# Altium footprint library Pcb_Components.PcbLib: 31 footprints (part 1 of 2)
Each footprint in its own frame and in the unit in brackets; x right, y up, seen from the top. Pads: shape width x height; smd on the part's side, far side on the other; paste and mask are expansions set on the pad; w line width, h text height; cw(c..) or ccw(c..) is an arc to the next point about the centre after c.
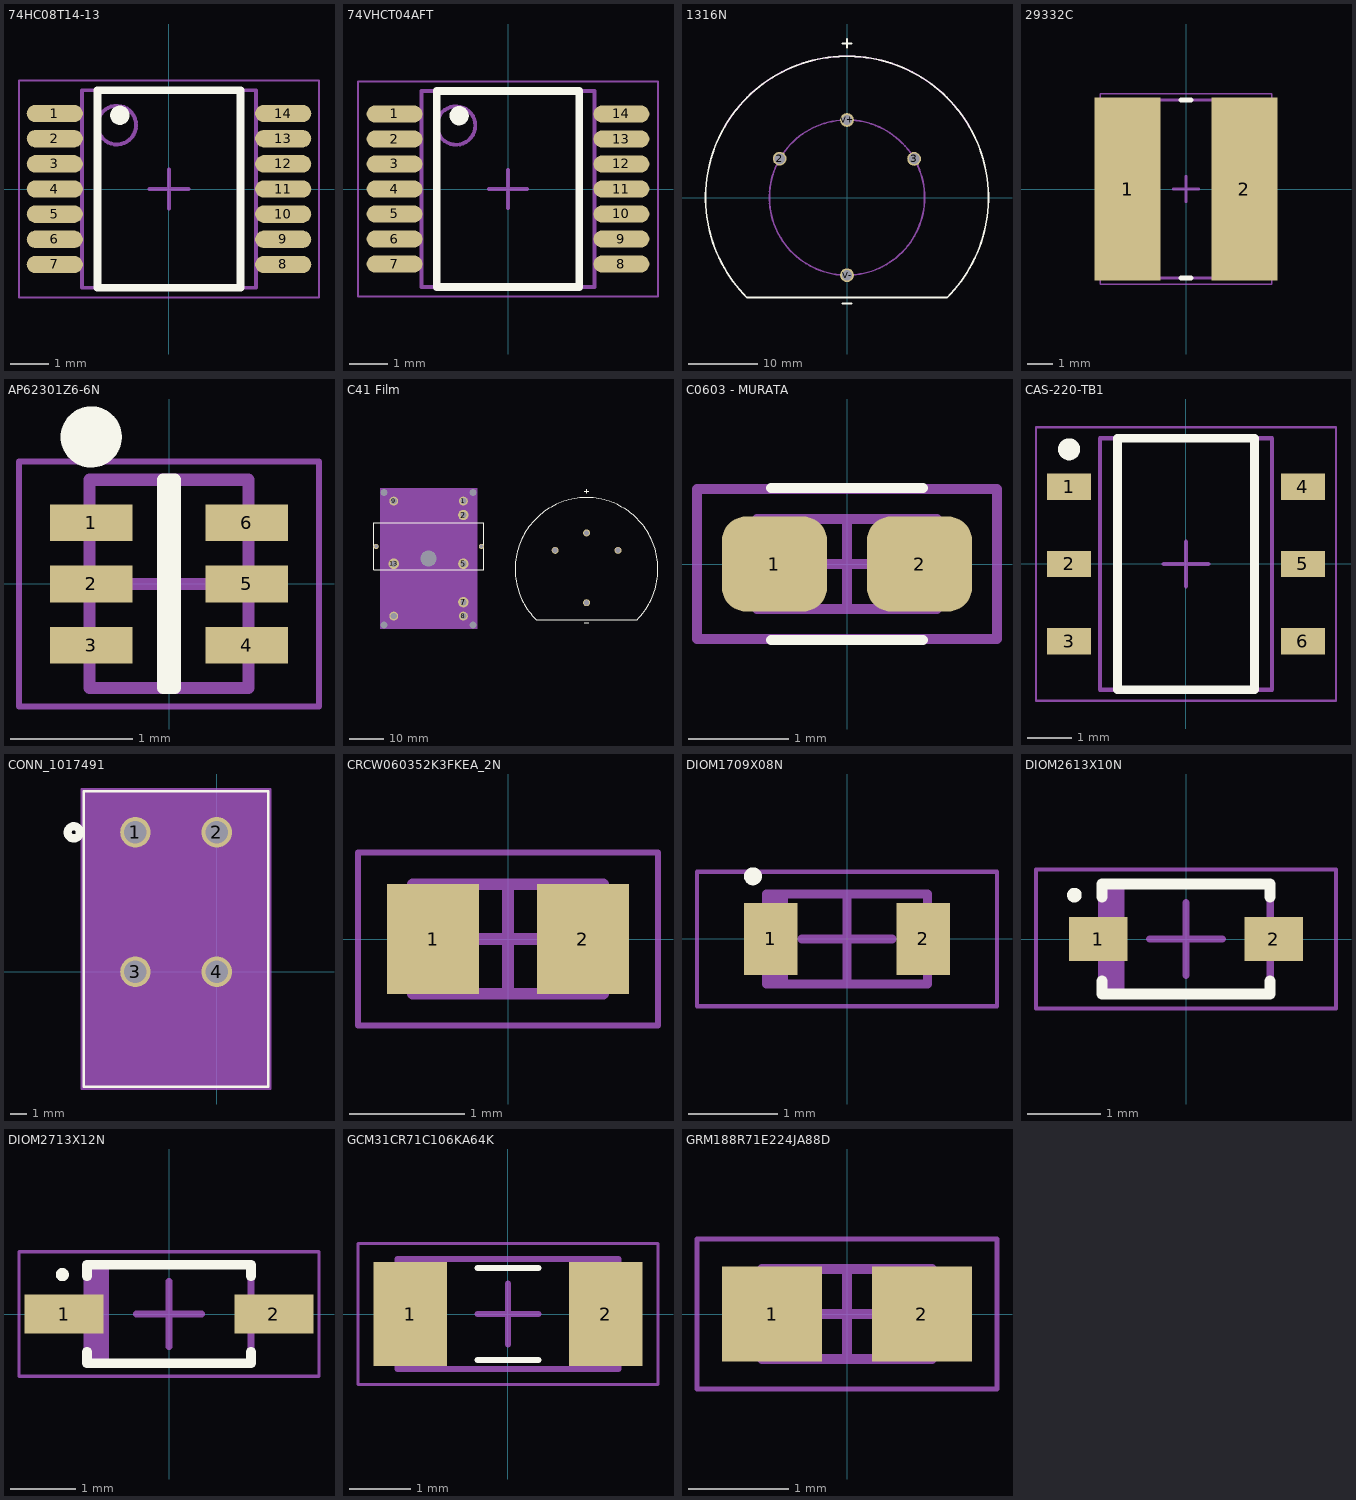
[diagram p0: the footprints below, top view; thin cyan lines are the x and y axes]

## 74HC08T14-13 [mm] "TSOP, 14-Leads, Body 5,00x4,40mm, Pitch 0,65mm, IPC Medium Density"
height 1.2
pads (14):
  oval 1.45x0.45 smd: 1(-2.95,1.95) 2(-2.95,1.3) 3(-2.95,0.65) 4(-2.95,0) 5(-2.95,-0.65) 6(-2.95,-1.3) 7(-2.95,-1.95) 8(2.95,-1.95) 9(2.95,-1.3) 10(2.95,-0.65) 11(2.95,0) 12(2.95,0.65) 13(2.95,1.3) 14(2.95,1.95)
Top Overlay:
  circle w0.25: c-1.27,1.905 r0.125
  lines w0.2: -1.85,-2.55 1.85,-2.55 1.85,2.55 -1.85,2.55 -1.85,-2.55
Mechanical 13:
  circle w0.1: c-1.35,1.65 r0.5
  lines w0.1: -2.25,-2.55 2.25,-2.55 2.25,2.55 -2.25,2.55 -2.25,-2.55
Mechanical 15:
  lines w0.05: -3.875,-2.8 3.875,-2.8 3.875,2.8 -3.875,2.8 -3.875,-2.8
  lines w0.1: -0.5,0 0.5,0 ; 0,-0.5 0,0.5
3D body "74HC08T14-13.step": height 1.2, standoff 0, extent -3.2,-2.55 3.2,2.55

## 74VHCT04AFT [mm] "TSOP, 14-Leads, Body 5,00x4,40mm, Pitch 0,65mm, IPC Medium Density"
height 1.2
pads (14):
  oval 1.45x0.45 smd: 1(-2.95,1.95) 2(-2.95,1.3) 3(-2.95,0.65) 4(-2.95,0) 5(-2.95,-0.65) 6(-2.95,-1.3) 7(-2.95,-1.95) 8(2.95,-1.95) 9(2.95,-1.3) 10(2.95,-0.65) 11(2.95,0) 12(2.95,0.65) 13(2.95,1.3) 14(2.95,1.95)
Top Overlay:
  circle w0.25: c-1.27,1.905 r0.125
  lines w0.2: -1.85,-2.55 1.85,-2.55 1.85,2.55 -1.85,2.55 -1.85,-2.55
Mechanical 13:
  circle w0.1: c-1.35,1.65 r0.5
  lines w0.1: -2.25,-2.55 2.25,-2.55 2.25,2.55 -2.25,2.55 -2.25,-2.55
Mechanical 15:
  lines w0.05: -3.9,-2.8 3.9,-2.8 3.9,2.8 -3.9,2.8 -3.9,-2.8
  lines w0.1: -0.5,0 0.5,0 ; 0,-0.5 0,0.5
3D body "74VHCT04AFT.step": height 1.2, standoff 0, extent -3.2,-2.55 3.2,2.55

## 1316N [mm]
pads (4):
  round 2 hole 1.5: 2(-9.754,5.639) 3(9.728,5.613) V+(0,11.25) V-(0,-11.25)
Top Overlay:
  lines w0.254: -14.496,-14.496 cw(c0,0) 14.496,-14.496 ; -14.478,-14.478 14.478,-14.478 ; -0.635,-15.367 0.635,-15.367 ; -0.635,22.352 0.635,22.352 ; 0,21.717 0,22.987
Mechanical 1:
  circle w0.254: c0,0 r11.25
Mechanical 13:
  lines w0.254: -17.754,10.25 cw(c0,0) 17.754,10.25

## 29332C [mm] "Precision Wire Wound Inductor, 2-Leads, Body 5,00x7,00mm, IPC Medium Density, 3.3uH"
height 4
pads (2):
  rect 2.6x7.2 smd: 1(-2.3,0) 2(2.3,0)
Top Overlay:
  lines w0.2: -0.2,-3.5 0.2,-3.5 ; -0.2,3.5 0.2,3.5
Mechanical 13:
  lines w0.1: -2.5,-3.5 2.5,-3.5 2.5,3.5 -2.5,3.5 -2.5,-3.5
Mechanical 15:
  lines w0.05: -3.375,-3.75 3.375,-3.75 3.375,3.75 -3.375,3.75 -3.375,-3.75
  lines w0.1: -0.5,0 0.5,0 ; 0,-0.5 0,0.5

## AP62301Z6-6N [mm] "SOTFL, 6-Leads, Body 1,60x1,60mm, Pitch 0,50mm, IPC Medium Density"
height 0.6
pads (6):
  rect 0.67x0.3 smd: 1(-0.635,0.5) 2(-0.635,0) 3(-0.635,-0.5) 4(0.635,-0.5) 5(0.635,0) 6(0.635,0.5)
Top Overlay:
  circle w0.25: c-0.635,1.2 r0.125
  lines w0.1: -0.05,-0.85 0.05,-0.85 0.05,0.85 -0.05,0.85 -0.05,-0.85
Mechanical 13:
  lines w0.1: -0.65,-0.85 -0.65,0.85 0.65,0.85 0.65,-0.85 -0.65,-0.85
Mechanical 15:
  lines w0.05: -1.225,-1 -1.225,1 1.225,1 1.225,-1 -1.225,-1
  lines w0.1: -0.5,0 0.5,0 ; 0,-0.5 0,0.5
3D body "AP62301Z6-6N.step": height 0.6, standoff 0, extent -0.8,-0.848 0.8,0.848

## C41 Film [mil]
pads (19):
  round 59.06 hole 39.37: 1(3000.6,2108) 2(4190,2108)
  round 100 hole 70.86: 1(3986.4,2620.66) 8(3986.4,1321.45) 9(3199,2620.66) 16(3199,1321.45)
  round 118 hole 70.86: 2(3986.4,2463.18) 5(3986.4,1912) 7(3986.4,1478.93) 13(3199,1912)
  round 78.74 hole 59.06: 2(5022.72,2064.15) 3(5733.28,2064.15) V+(5378,2261) V-(5378,1472.02)
  round 5 hole 78.74 unplated: 9(3090.73,1223.02) 9(3090.73,2719.09) 9(4094.67,1223.02) 9(4094.67,2719.09)
  round 5 hole 181.1 unplated: 9(3592.7,1971.06)
Top Overlay:
  lines w10: 4807.3,1281.33 cw(c5378,1852.02) 5948.7,1281.33 ; 4808,1282.02 5948,1282.02 ; 5353,1247.02 5403,1247.02 ; 5353,2732.02 5403,2732.02 ; 5378,2707.02 5378,2757.02 ; 2975.3,1842 2975.3,2374 4215.3,2374 4215.3,1842 2975.3,1842
Bottom Overlay:
  lines w10: 3033.52,1167.8 3033.52,2774.3 4151.52,2774.3 4151.52,1167.8 3033.52,1167.8
Mechanical 1:
  region: 3041.52,2768.34 3041.52,1173.85 4143.88,1173.85 4143.88,2768.34
3D body: height 20, standoff 0, extent 3527,1909 3657,2033
3D body: height -137, standoff -609, extent 3041.52,1173.85 4143.88,2768.34
3D body: height -15, standoff -20, extent 3,-5 7181,3932
3D body: height 500, standoff 468, extent 2584,2092 2616,2688
3D body: height 468, standoff -20, extent 2985,2092 3017,2124
3D body: height 500, standoff 468, extent 2584,2092 3017,2124
3D body: height 468, standoff -20, extent 4174,2092 4206,2124
3D body: height 932, standoff 900, extent 2584,2656 2977,2688
3D body: height 900, standoff 500, extent 2584,2656 2616,2688
3D body: height 932, standoff 900, extent 4217,2656 4610,2688
3D body: height 1182, standoff 650, extent 2977,2406 4217,2938
3D body: height 900, standoff 500, extent 4578,2656 4610,2688
3D body: height 500, standoff 468, extent 4174,2092 4610,2124
3D body: height 500, standoff 468, extent 4578,2092 4610,2688

## C0603 - MURATA [mm]
pads (2):
  rrect50% 1.05x0.95 smd: 1(-0.725,0) 2(0.725,0)
Top Overlay:
  lines w0.1: -0.762,-0.762 0.762,-0.762 ; -0.762,0.762 0.762,0.762
Top 3D Body:
  lines w0.1: -0.9,-0.45 -0.9,0.45 0.9,0.45 0.9,-0.45 -0.9,-0.45
Top Courtyard:
  lines w0.1: -0.45,0 0.45,0 ; 0,-0.45 0,0.45 ; -1.5,-0.75 -1.5,0.75 1.5,0.75 1.5,-0.75 -1.5,-0.75
Top Designator:
  text ".Designator" at -1.377,-1.226 h0.25
3D body "C0603 --MURATA.step": height 0.9, standoff 0, extent -0.9,-0.45 0.9,0.45

## CAS-220-TB1 [mm] "SOT23, 6-Leads, Body 5,40x5,10mm, Pitch 1,75mm, IPC Medium Density"
height 2.5
pads (6):
  rect 1x0.6 smd: 1(-2.65,1.75) 2(-2.65,0) 3(-2.65,-1.75) 4(2.65,1.75) 5(2.65,0) 6(2.65,-1.75)
Top Overlay:
  circle w0.25: c-2.65,2.6 r0.125
  lines w0.2: -1.55,-2.85 1.55,-2.85 1.55,2.85 -1.55,2.85 -1.55,-2.85
Mechanical 13:
  lines w0.1: -1.95,-2.85 -1.95,2.85 1.95,2.85 1.95,-2.85 -1.95,-2.85
Mechanical 15:
  lines w0.05: -3.4,-3.1 -3.4,3.1 3.4,3.1 3.4,-3.1 -3.4,-3.1
  lines w0.1: -0.5,0 0.5,0 ; 0,-0.5 0,0.5
3D body "CAS-220-TB1.step": height 2.5, standoff 0, extent -2.8,-2.85 2.8,2.85

## CONN_1017491 [mil]
pads (4):
  round 75 / inner round 60 / far side round 75 hole 55 paste-99999 mask+0: 1(-200,342.52) 2(0,342.52) 3(-200,0) 4(0,0)
Top Overlay:
  circle w20: c-351.5,342.52 r15
  lines w6: -326.5,-283.02 -326.5,443.98 126.5,443.98 126.5,-283.02 -326.5,-283.02
Bottom Overlay:
  circle w20: c-351.5,342.52 r15
Mechanical 13:
  circle w20: c-200,417.52 r15
  lines w1: -321.5,-278.02 -321.5,438.98 121.5,438.98 121.5,-278.02 -321.5,-278.02
Mechanical 15:
  region: 131.5,448.98 -331.5,448.98 -331.5,-288.02 131.5,-288.02
  lines w6: -331.5,-288.02 131.5,-288.02 131.5,448.98 -331.5,448.98 -331.5,-288.02

## CRCW060352K3FKEA_2N [mm] "Chip Resistor, 2-Leads, Body 1,58x0,85mm, IPC Medium Density"
height 0.5
pads (2):
  rect 0.8x0.95 smd: 1(-0.65,0) 2(0.65,0)
Mechanical 13:
  lines w0.1: -0.825,-0.475 -0.825,0.475 0.825,0.475 0.825,-0.475 -0.825,-0.475
Mechanical 15:
  lines w0.05: -1.3,-0.75 -1.3,0.75 1.3,0.75 1.3,-0.75 -1.3,-0.75
  lines w0.1: -0.475,0 0.475,0 ; 0,-0.475 0,0.475
3D body "CRCW060352K3FKEA_2N.step": height 0.5, standoff 0, extent -0.825,-0.475 0.825,0.475

## Diodo [mm]

## DIOM1709X08N [mm] "Molded Diode, 2-Leads, Body 1,70x0,90mm, IPC Medium Density"
height 0.85
pads (2):
  rect 0.6x0.8 smd: 1(-0.85,0) 2(0.85,0)
Top Overlay:
  circle w0.1: c-1.05,0.7 r0.05
Top Courtyard:
  lines w0.05: -1.675,-0.75 1.675,-0.75 1.675,0.75 -1.675,0.75 -1.675,-0.75
  lines w0.1: -0.5,0 0.5,0 ; 0,-0.5 0,0.5
Mechanical 13:
  rectangle: -0.9,-0.5 -0.658,0.5
  lines w0.1: -0.9,-0.5 0.9,-0.5 0.9,0.5 -0.9,0.5 -0.9,-0.5
3D body "DIOM1709X08N.step": height 0.85, standoff 0, extent -1.12,-0.5 1.12,0.5

## DIOM2613X10N [mm] "Molded Diode, 2-Leads, Body 2,55x1,30mm, IPC Medium Density"
height 1
pads (2):
  rect 0.8x0.6 smd: 1(-1.2,0) 2(1.2,0)
Top Overlay:
  circle w0.1: c-1.525,0.6 r0.05
  lines w0.15: -1.15,-0.575 -1.15,-0.75 1.15,-0.75 1.15,-0.575 ; -1.15,0.575 -1.15,0.75 1.15,0.75 1.15,0.575
Top Courtyard:
  lines w0.05: -2.05,-0.95 2.05,-0.95 2.05,0.95 -2.05,0.95 -2.05,-0.95
  lines w0.1: -0.5,0 0.5,0 ; 0,-0.5 0,0.5
Mechanical 13:
  rectangle: -1.15,-0.75 -0.841,0.75
  lines w0.1: -1.15,-0.75 1.15,-0.75 1.15,0.75 -1.15,0.75 -1.15,-0.75
3D body "DIOM2613X10N.step": height 1, standoff 0, extent -1.37,-0.75 1.37,0.75

## DIOM2713X12N [mm] "Molded Diode, 2-Leads, Body 2,67x1,30mm, IPC Medium Density"
height 1.15
pads (2):
  rect 1.2x0.6 smd: 1(-1.6,0) 2(1.6,0)
Top Overlay:
  circle w0.1: c-1.625,0.6 r0.05
  lines w0.15: -1.25,-0.575 -1.25,-0.75 1.25,-0.75 1.25,-0.575 ; -1.25,0.575 -1.25,0.75 1.25,0.75 1.25,0.575
Mechanical 13:
  rectangle: -1.25,-0.75 -0.914,0.75
  lines w0.1: -1.25,-0.75 1.25,-0.75 1.25,0.75 -1.25,0.75 -1.25,-0.75
Mechanical 15:
  lines w0.05: -2.286,-0.95 2.286,-0.95 2.286,0.95 -2.286,0.95 -2.286,-0.95
  lines w0.1: -0.5,0 0.5,0 ; 0,-0.5 0,0.5
3D body "DIOM2713X12N.step": height 1.15, standoff 0, extent -1.47,-0.75 1.47,0.75

## GCM31CR71C106KA64K [mm] "Chip Capacitor, 2-Leads, Body 3,50x1,60mm, IPC Medium Density"
height 1.6
pads (2):
  rect 1.2x1.7 smd: 1(-1.6,0) 2(1.6,0)
Top Overlay:
  lines w0.1: -0.5,-0.75 0.5,-0.75 ; -0.5,0.75 0.5,0.75
Mechanical 13:
  lines w0.1: -1.8,-0.9 1.8,-0.9 1.8,0.9 -1.8,0.9 -1.8,-0.9
Mechanical 15:
  lines w0.05: -2.45,-1.15 2.45,-1.15 2.45,1.15 -2.45,1.15 -2.45,-1.15
  lines w0.1: -0.5,0 0.5,0 ; 0,-0.5 0,0.5
3D body "GCM31CR71C106KA64K.step": height 1.6, standoff 0, extent -1.8,-0.9 1.8,0.9

## GRM188R71E224JA88D [mm] "Chip Capacitor, 2-Leads, Body 1,60x0,80mm, IPC Medium Density"
height 0.9
pads (2):
  rect 1x0.95 smd: 1(-0.75,0) 2(0.75,0)
Mechanical 13:
  lines w0.1: -0.85,-0.45 -0.85,0.45 0.85,0.45 0.85,-0.45 -0.85,-0.45
Mechanical 15:
  lines w0.05: -1.5,-0.75 -1.5,0.75 1.5,0.75 1.5,-0.75 -1.5,-0.75
  lines w0.1: -0.45,0 0.45,0 ; 0,-0.45 0,0.45
3D body "GRM188R71E224JA88D.step": height 0.9, standoff 0, extent -0.85,-0.45 0.85,0.45